# EAGLE library part MAX30102 (library LARS_409_SENSORS)
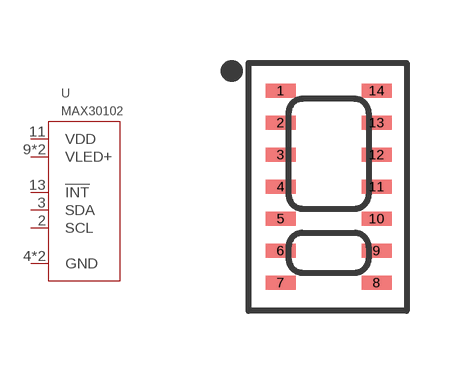
[diagram p7: symbol with the pads of OLGA-14; footprint OLGA-14]

Designator prefix U

## MAX30102  [OLGA-14]
2  SCL
3  SDA
4  GND
9  VLED+
10  VLED+
11  VDD
12  GND
13  !INT

## Footprint OLGA-14 (pad centres in mm)
smd 0.75 x 0.35: 1 -1.2,2.4; 2 -1.2,1.6; 3 -1.2,0.8; 4 -1.2,0; 5 -1.2,-0.8; 6 -1.2,-1.6; 7 -1.2,-2.4; 8 1.2,-2.4; 9 1.2,-1.6; 10 1.2,-0.8; 11 1.2,0; 12 1.2,0.8; 13 1.2,1.6; 14 1.2,2.4